# Altium schematic symbol library Connector - 16P.SchLib: 1 symbol
Pins are listed as number, name and electrical type; pins without a type are passive.

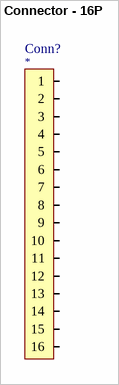
[diagram p0: symbol Connector - 16P]

## Connector - 16P
designator Conn?
Conn, JST, 16P, TH, PAD, Side Entry; Component Category: Connector; ComponentLink1Description: Datasheet; ComponentLink1URL: *; ComponentLink2Description: Supplier Link; ComponentLink2URL: *; Supplier: *; Supplier Part Number: *; Manufacturer: JST; Operating Temperature, Min: -℃; Operating Temperature, Max: +℃; Quantity, Min: *; Quantity, Max: *; Price, Min: *; Supplier Currency: *; Price, Max: *; Supplier Link: *; Component Type: PCB; Package: *; Manufacturer Part Number: *
footprint Connector, S16B-PADSS-1
pins: 1, 2, 3, 4, 5, 6, 7, 8, 9, 10, 11, 12, 13, 14, 15, 16
2 alternate drawings of the same symbol